# Altium footprint library SIGFOX-PCB-RULER.PcbLib: 49 footprints (part 2 of 4)
Each footprint in its own frame and in the unit in brackets; x right, y up, seen from the top. Pads: shape width x height; smd on the part's side, far side on the other; paste and mask are expansions set on the pad; w line width, h text height; cw(c..) or ccw(c..) is an arc to the next point about the centre after c.
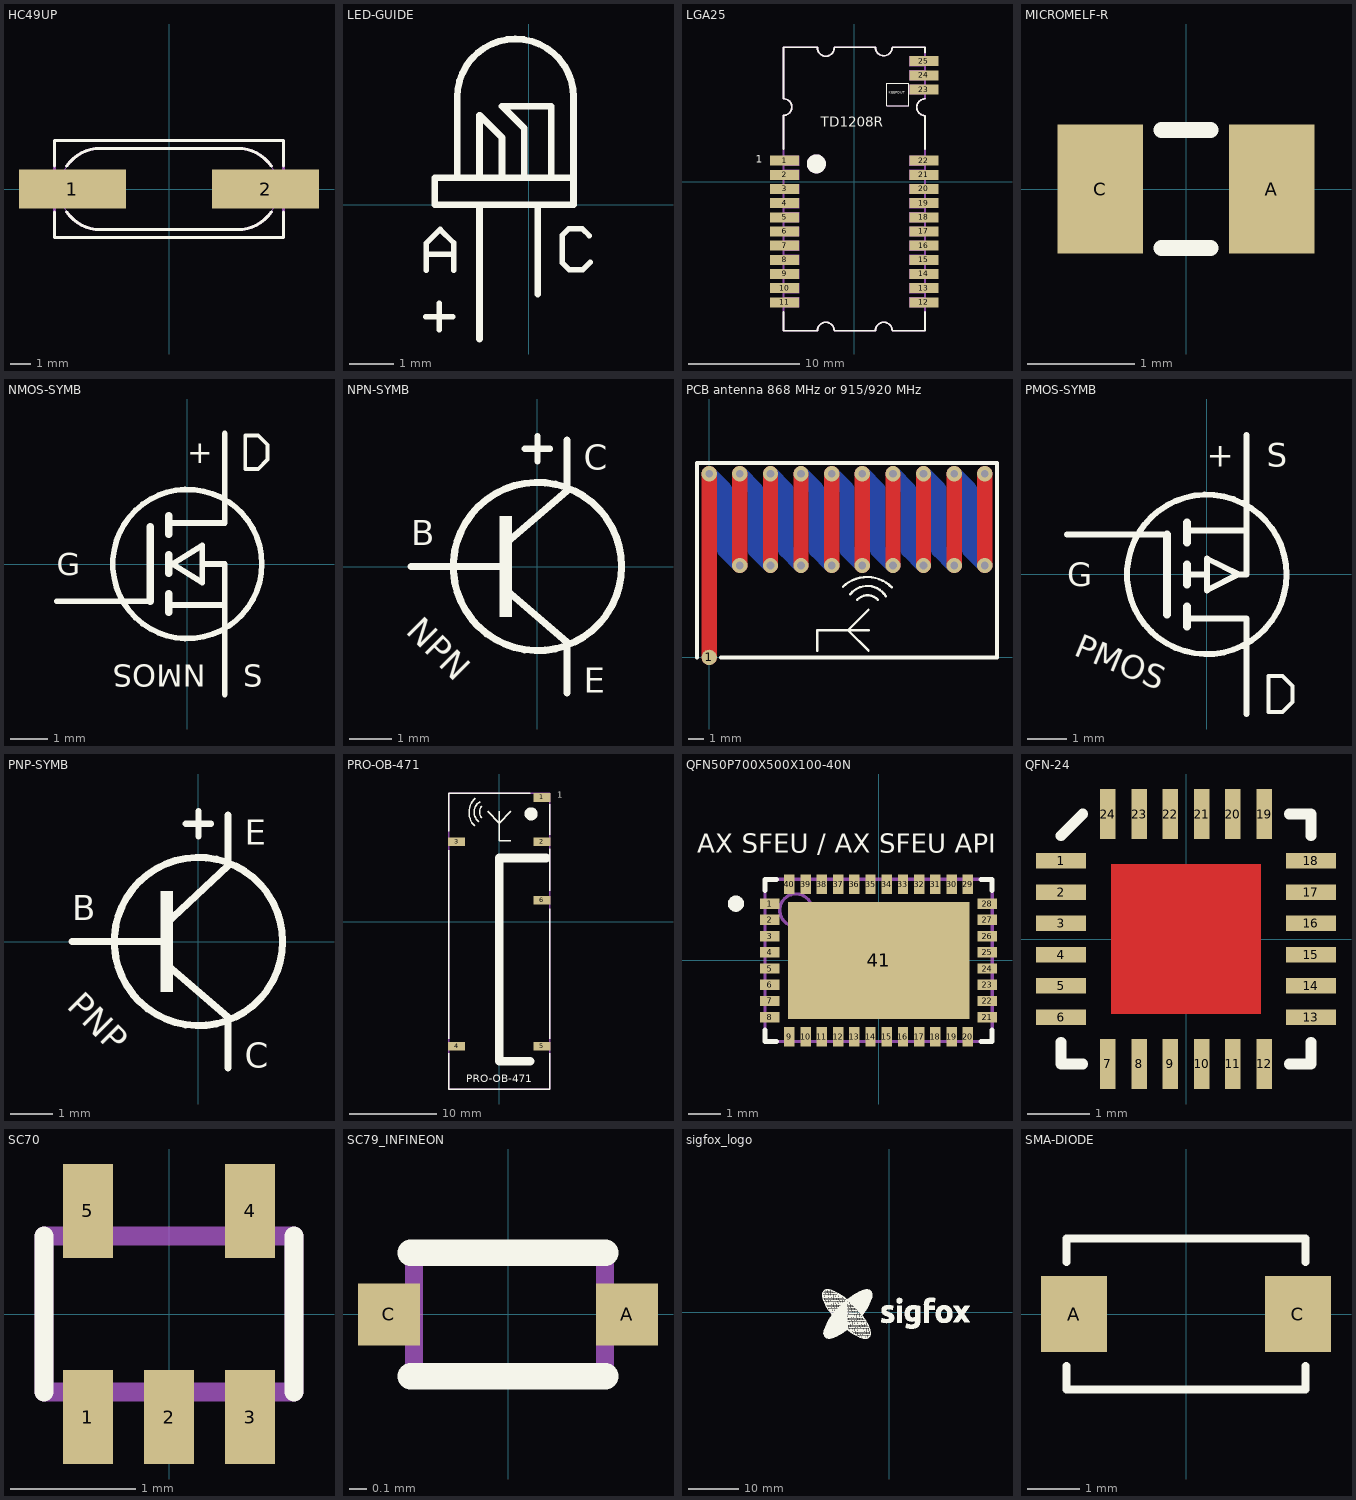
[diagram p1: the footprints below, top view; thin cyan lines are the x and y axes]

## HC49UP [mil]
pads (2):
  rect 210x76 smd: 1(-190,0) 2(190,0)
Top Overlay:
  lines w5.91: -225,-45 -225,-95 225,-95 225,-45 ; -225,45 -225,95 225,95 225,45 ; -201.14,-45 ccw(c-135,0) -135,-80 135,-80 ccw(c135,0) 201.15,-45 ; -201.15,45 cw(c-135,0) -135,80 135,80 cw(c135,0) 201.14,45
Mechanical 13:
  lines w2: -201.15,-45 cw(c-135,0) -201.15,45 ; 201.15,-45 ccw(c135,0) 201.15,45
  lines w5.91: -225,-45 -225,-95 225,-95 225,-45 ; -225,45 -225,95 225,95 225,45 ; -201.14,-45 ccw(c-135,0) -135,-80 135,-80 ccw(c135,0) 201.15,-45 ; -201.15,45 cw(c-135,0) -135,80 135,80 cw(c135,0) 201.14,45
  lines w6: -225,-45 -225,-15 ; -225,45 -225,15 ; 225,-45 225,45 ; 225,-15 255,-15 255,15 225,15 ; -225,-15 -225,15 ; -225,-15 -255,-15 -255,15 -225,15

## LED-GUIDE [mm]
Top Overlay:
  lines w0.12: -2.3,-2.5 -1.7,-2.5 ; -2.29,-1.47 -2.29,-1.11 ; -2,-2.8 -2,-2.2 ; -1.69,-1.11 -2.29,-1.11 ; -1.68,-1.47 -1.68,-0.85 -1.98,-0.55 -2.29,-0.86 -2.29,-1.11 ; 1.35,-0.69 1.2,-0.54 0.89,-0.54 0.75,-0.68 0.75,-1.3 0.9,-1.45 1.21,-1.45 1.37,-1.29
  lines w0.15: -1.1,-3 -1.1,0 ; 0.2,-2 0.2,0 ; -1.6,0.6 -1.1,0.6 ; -1.6,0.6 -2.1,0.6 -2.1,0 -1.1,0 ; -1.6,0.6 -1.6,2.4 cw(c-0.3,2.4) -0.3,3.7 cw(c-0.3,2.4) 1,2.4 1,0.6 ; -1.1,0 0.2,0 ; -1.1,0.6 -0.6,0.6 ; -1.1,0.6 -1.1,2 -0.6,1.5 -0.6,0.6 ; -0.6,0.6 -0.1,0.6 ; -0.1,0.6 0.5,0.6 ; -0.1,0.6 -0.1,1.7 -0.6,2.2 0.5,2.2 0.5,0.6 ; 0.2,0 1,0 1,0.6 ; 0.5,0.6 1,0.6

## LGA25 [mm]
pads (25):
  rect 2.6x0.89 smd: 1(-6.25,1.89) 2(-6.25,0.62) 3(-6.25,-0.65) 4(-6.25,-1.92) 5(-6.25,-3.19) 6(-6.25,-4.46) 7(-6.25,-5.73) 8(-6.25,-7) 9(-6.25,-8.27) 10(-6.25,-9.54) 11(-6.25,-10.81) 12(6.25,-10.81) 13(6.25,-9.54) 14(6.25,-8.27) 15(6.25,-7) 16(6.25,-5.73) 17(6.25,-4.46) 18(6.25,-3.19) 19(6.25,-1.92) 20(6.25,-0.65) 21(6.25,0.62) 22(6.25,1.89) 23(6.25,8.27) 24(6.25,9.54) 25(6.25,10.81)
Top Overlay:
  circle w1: c-3.4,1.6 r0.35
  lines w0.076: 2.902,6.81 4.902,6.81 4.902,8.81 2.902,8.81 2.902,6.81
  lines w0.154: -6.35,-11.684 -6.35,-13.35 -3.296,-13.35 ; -6.35,2.941 -6.35,5.95 ccw(c-6.35,6.7) -6.35,7.45 -6.35,12.05 -3.3,12.05 ; -3.3,-13.35 cw(c-2.55,-13.35) -1.8,-13.35 1.9,-13.35 cw(c2.65,-13.35) 3.4,-13.35 6.35,-13.35 6.35,-11.684 ; -3.3,12.008 ccw(c-2.55,12.008) -1.8,12.008 ; -1.8,12.05 1.9,12.05 ccw(c2.65,12.05) 3.4,12.041 ; 3.4,12.05 6.35,12.05 6.35,11.557 ; 6.35,2.921 6.35,5.93 cw(c6.35,6.68) 6.35,7.43
  text "1" at -8.85,1.45 h1.2
  text "KEEPOUT" at 3.073,7.783 h0.4
  text "TD1208R" at -3,4.63 h1.5
Mechanical 13:
  drawing of 46 lines, arcs and shapes, not listed
  text "TD1208R" at -3,4.63 h1.5
  text "KEEPOUT" at 3.073,7.783 h0.4

## MICROMELF-R [mm]
pads (2):
  rect 0.8x1.2 smd: A(0.8,0) C(-0.8,0)
Top Overlay:
  lines w0.15: -0.229,-0.55 0.229,-0.55 ; -0.229,0.55 0.229,0.55

## NMOS-SYMB [mm]
Top Overlay:
  circle w0.15: c0,0 r2
  lines w0.1: 1.55,2.55 1.55,3.45 1.9,3.45 2.15,3.2 2.15,2.8 1.9,2.55 1.55,2.55
  lines w0.15: -3.5,-1 -1,-1 ; -0.5,-1.1 1,-1.1 ; -0.5,1.1 1,1.1 1,3.5 ; 1,-3.5 1,-1.1 ; 0.4,0 0.4,0.5 -0.4,0 0.4,-0.5 0.4,0 ; 0.4,0 1,0 1,-1.1
  lines w0.2: -1,-1 -1,1 ; -0.5,-1.3 -0.5,-1.1 -0.5,-0.8 ; -0.5,-0.25 -0.5,0 ; -0.5,0.25 -0.5,0 ; -0.5,0.8 -0.5,1.1 -0.5,1.3 ; -0.4,0 -0.5,0
  text "G" at -3.5,-0.5 h1.02
  text "S" at 1.5,-3.5 h1.02
  text "+" at 0,2.5 h1.02
  text "NMOS" at 0.5,-2.5 h1.02

## NPN-SYMB [mm]
Top Overlay:
  circle w0.17: c0,0 r2
  rectangle: -0.9,-1.2 -0.6,1.2
  lines w0.15: -0.3,2.8 0.3,2.8 ; 0,2.5 0,3.1
  lines w0.17: -3,0 -0.8,0 ; -0.8,-0.5 0.7,-1.8 0.7,-3 ; -0.8,0.5 0.7,1.8 0.7,3
  text "E" at 1.1,-3.2 h1.02
  text "C" at 1.1,2.1 h1.02
  text "B" at -3,0.3 h1.02
  text "NPN" at -3.3,-1.7 h1.02

## PCB antenna 868 MHz or 915/920 MHz [mm] "Design Note DN038, CC11xx/CC12xx"
pads (1):
  round 1 smd: 1(0,0)
via 18,6 diameter 1 hole 0.5
via 18,12 diameter 1 hole 0.5
via 16,6 diameter 1 hole 0.5
via 16,12 diameter 1 hole 0.5
via 14,6 diameter 1 hole 0.5
via 14,12 diameter 1 hole 0.5
via 12,6 diameter 1 hole 0.5
via 12,12 diameter 1 hole 0.5
via 10,6 diameter 1 hole 0.5
via 10,12 diameter 1 hole 0.5
via 8,6 diameter 1 hole 0.5
via 8,12 diameter 1 hole 0.5
via 6,6 diameter 1 hole 0.5
via 6,12 diameter 1 hole 0.5
via 4,6 diameter 1 hole 0.5
via 4,12 diameter 1 hole 0.5
via 2,12 diameter 1 hole 0.5
via 2,6 diameter 1 hole 0.5
via 0,12 diameter 1 hole 0.5
Top Layer:
  lines w1: 0,0 0,12 ; 2,6 2,12 ; 4,6 4,12 ; 6,6 6,12 ; 8,6 8,12 ; 10,6 10,12 ; 12,6 12,12 ; 14,6 14,12 ; 16,6 16,12 ; 18,6 18,12
Bottom Layer:
  lines w1: 2,6 1,7 1,11 0,12 ; 2,12 3,11 3,7 4,6 ; 4,12 5,11 5,7 6,6 ; 6,12 7,11 7,7 8,6 ; 8,12 9,11 9,7 10,6 ; 10,12 11,11 11,7 12,6 ; 12,12 13,11 13,7 14,6 ; 14,12 15,11 15,7 16,6 ; 16,12 17,11 17,7 18,6 ; 0,12 0,12
Top Overlay:
  lines w0.155: 7.066,0.434 7.066,1.778 9.07,1.778 ; 8.738,4.615 cw(c10.312,2.99) 11.938,4.564 ; 9.22,4.133 cw(c10.328,3.249) 11.536,3.989 ; 9.677,3.777 cw(c10.345,3.109) 11.013,3.777 ; 10.406,0.442 9.07,1.778 ; 10.406,3.114 9.07,1.778 ; 10.439,1.778 9.07,1.778
  lines w0.25: -0.796,0 -0.796,12.7 ; -0.762,12.7 18.796,12.7 18.796,0 0.75,0
Bottom Overlay:
  lines w0.155: 7.066,0.434 7.066,1.778 9.07,1.778 ; 8.738,4.615 cw(c10.312,2.99) 11.938,4.564 ; 9.22,4.133 cw(c10.328,3.249) 11.536,3.989 ; 9.677,3.777 cw(c10.345,3.109) 11.013,3.777 ; 10.406,0.442 9.07,1.778 ; 10.406,3.114 9.07,1.778 ; 10.439,1.778 9.07,1.778
  lines w0.25: -0.796,0 -0.796,12.7 ; -0.762,12.7 18.796,12.7 18.796,0 0.75,0

## PMOS-SYMB [mm]
Top Overlay:
  circle w0.15: c0,0 r2
  lines w0.1: 1.55,-3.45 1.9,-3.45 2.15,-3.2 2.15,-2.8 1.9,-2.55 1.55,-2.55 1.55,-3.45
  lines w0.15: -3.5,1 -1,1 ; -0.5,-1.1 1,-1.1 1,-3.5 ; -0.5,0 0,0 ; -0.5,1.1 1,1.1 ; 1,3.5 1,1.1 ; 0,0 0,-0.4 0.8,0 ; 0,0 0,0.4 0.8,0 ; 0.8,0 1,0 1,1.1
  lines w0.2: -1,-1 -1,1 ; -0.5,-1.3 -0.5,-1.1 -0.5,-0.8 ; -0.5,-0.25 -0.5,0 -0.5,0.25 ; -0.5,0.8 -0.5,1.1 -0.5,1.3
  text "PMOS" at -3.441,-2.2 h1.02
  text "+" at 0,2.5 h1.02
  text "S" at 1.5,2.5 h1.02
  text "G" at -3.5,-0.5 h1.02

## PNP-SYMB [mm]
Top Overlay:
  circle w0.17: c0,0 r2
  rectangle: -0.9,-1.2 -0.6,1.2
  lines w0.15: -0.3,2.8 0.3,2.8 ; 0,2.5 0,3.1
  lines w0.17: -3,0 -0.8,0 ; -0.8,-0.5 0.7,-1.8 0.7,-3 ; -0.8,0.4 0.7,1.8 0.7,3
  text "C" at 1.1,-3.2 h1.02
  text "E" at 1.1,2.1 h1.02
  text "B" at -3,0.3 h1.02
  text "PNP" at -3.3,-1.7 h1.02

## PRO-OB-471 [mm]
pads (6):
  rect 1.95x1 smd: 1(4.9,14.3) 2(4.9,9.2) 3(-4.9,9.2) 4(-4.9,-14.3) 5(4.9,-14.3) 6(4.9,2.5)
Top Overlay:
  circle w1: c3.658,12.421 r0.254
  lines w0.154: -5.8,-15.113 -5.8,-19.2 5.8,-19.2 5.8,-15.113 ; -5.8,-13.411 -5.8,8.255 ; -5.8,10.414 -5.8,14.8 3.556,14.8 ; 5.8,-13.411 5.8,1.524 ; 5.8,3.556 5.8,8.382 ; 5.8,10.033 5.8,13.53
  lines w0.155: -2.837,11.024 cw(c-1.212,12.598) -2.786,14.224 ; -2.355,11.506 cw(c-1.471,12.614) -2.211,13.822 ; -1.999,11.963 cw(c-1.331,12.631) -1.999,13.299 ; -1.336,12.692 0,11.356 ; 0,12.725 0,11.356 ; 1.336,12.692 0,11.356 ; 1.344,9.352 0,9.352 0,11.356
  lines w1: 3.554,-16 0,-16 0,7.35 5.412,7.35
  text "PRO-OB-471" at -3.8,-18.72 h1.5
  text "1" at 6.68,14.028 h1.2
Mechanical 13:
  region: -5.4,-14.7 -5.4,-13.9 -4.44,-13.9 -4.44,-14.7
  region: -5.4,8.8 -5.4,9.6 -4.44,9.6 -4.44,8.8
  region: 5.4,8.8 5.4,9.6 4.44,9.6 4.44,8.8
  region: 5.4,13.9 5.4,14.7 4.44,14.7 4.44,13.9
  region: 5.4,2.1 5.4,2.9 4.44,2.9 4.44,2.1
  region: 5.4,-14.7 5.4,-13.9 4.44,-13.9 4.44,-14.7
  lines w0.154: -5.8,-19.2 -5.8,14.8 5.8,14.8 5.8,-19.2 -5.8,-19.2
3D body: height 4.93, standoff 0, extent -5.817,-19.222 5.712,14.778

## QFN50P700X500X100-40N [mm] "QFN, 40-Leads, Body 5.0x7.0mm (max), Pitch 0.50mm, IPC Medium Density"
height 1
pads (41):
  rect 0.6x0.32 smd: 1(-3.35,1.75) 2(-3.35,1.25) 3(-3.35,0.75) 4(-3.35,0.25) 5(-3.35,-0.25) 6(-3.35,-0.75) 7(-3.35,-1.25) 8(-3.35,-1.75) 21(3.35,-1.75) 22(3.35,-1.25) 23(3.35,-0.75) 24(3.35,-0.25) 25(3.35,0.25) 26(3.35,0.75) 27(3.35,1.25) 28(3.35,1.75)
  rect 0.32x0.6 smd: 9(-2.75,-2.35) 10(-2.25,-2.35) 11(-1.75,-2.35) 12(-1.25,-2.35) 13(-0.75,-2.35) 14(-0.25,-2.35) 15(0.25,-2.35) 16(0.75,-2.35) 17(1.25,-2.35) 18(1.75,-2.35) 19(2.25,-2.35) 20(2.75,-2.35) 29(2.75,2.35) 30(2.25,2.35) 31(1.75,2.35) 32(1.25,2.35) 33(0.75,2.35) 34(0.25,2.35) 35(-0.25,2.35) 36(-0.75,2.35) 37(-1.25,2.35) 38(-1.75,2.35) 39(-2.25,2.35) 40(-2.75,2.35)
  rect 5.6x3.6 smd: 41(0,0)
Top Layer:
  text "QFN40" at -1.6,4.08 h1
Top Overlay:
  circle w0.25: c-4.4,1.75 r0.125
  lines w0.154: -3.5,-2.15 -3.5,-2.5 -3.15,-2.5 ; -3.5,2.15 -3.5,2.5 -3.15,2.5 ; 3.15,-2.5 3.5,-2.5 3.5,-2.15 ; 3.15,2.5 3.5,2.5 3.5,2.15
  text "AX SFEU / AX SFEU API" at -5.6,3.12 h1
Mechanical 13:
  drawing of 45 lines, arcs and shapes, not listed
Mechanical 15:
  lines w0.1: -0.5,0 0.5,0 ; 0,-0.5 0,0.5
3D body: height 1, standoff 0, extent -3.5,-2.5 3.5,2.5

## QFN-24 [mm]
pads (24):
  rect 0.8x0.25 smd: 1(-2,1.25) 2(-2,0.75) 3(-2,0.25) 4(-2,-0.25) 5(-2,-0.75) 6(-2,-1.25) 13(2,-1.25) 14(2,-0.75) 15(2,-0.25) 16(2,0.25) 17(2,0.75) 18(2,1.25)
  rect 0.25x0.8 smd: 7(-1.25,-2) 8(-0.75,-2) 9(-0.25,-2) 10(0.25,-2) 11(0.75,-2) 12(1.25,-2) 19(1.25,2) 20(0.75,2) 21(0.25,2) 22(-0.25,2) 23(-0.75,2) 24(-1.25,2)
Top Layer:
  rectangle: -1.2,-1.2 1.2,1.2
Top Overlay:
  lines w0.17: -2,-1.65 -2,-2 -1.65,-2 ; -2,1.65 -1.65,2 ; 1.65,-2 2,-2 2,-1.65 ; 1.65,2 2,2 2,1.65
Top Paste:
  rectangle: -1.2,-1.2 1.2,1.2
Top Solder:
  rectangle: -1.2,-1.2 1.2,1.2

## SC70 [mm]
pads (5):
  rect 0.4x0.75 smd: 1(-0.65,-0.825) 2(0,-0.825) 3(0.65,-0.825) 4(0.65,0.825) 5(-0.65,0.825)
Top Layer:
  rectangle: 0.508,-1.168 0.838,-0.483
  rectangle: -0.165,-1.168 0.165,-0.483
  rectangle: -0.838,-1.168 -0.508,-0.483
  rectangle: 0.45,0.45 0.85,1.2
  rectangle: -0.85,0.45 -0.45,1.2
Top Overlay:
  lines w0.15: -1,-0.625 -1,0.625 ; 1,-0.625 1,0.625
Mechanical 13:
  lines w0.15: -1,-0.625 -1,0.625 1,0.625 1,-0.625 -1,-0.625

## SC79_INFINEON [mm]
pads (2):
  rect 0.35x0.35 smd: A(0.675,0) C(-0.675,0)
Top Overlay:
  lines w0.15: -0.55,-0.35 0.55,-0.35 ; -0.55,0.35 0.55,0.35
Mechanical 13:
  rectangle: 0.55,-0.15 0.8,0.15
  rectangle: -0.8,-0.15 -0.55,0.15
  lines w0.102: -0.533,-0.344 -0.533,0.356 ; 0.55,-0.35 0.55,0.35

## sigfox_logo [mm]
Top Overlay:
  drawing of 2872 lines, arcs and shapes, not listed

## SMA-DIODE [mm]
pads (2):
  rect 1.27x1.47 smd: A(-2.15,0) C(2.15,0)
Top Overlay:
  lines w0.152: -2.3,-1 -2.3,-1.45 2.3,-1.45 2.3,-1 ; -2.3,1 -2.3,1.45 2.3,1.45 2.3,1